# EAGLE library part PIC18F4550 (library microchip)
PIC18F4550 PIC18f4550 product page <http://www.microchip.com/wwwproducts/en/PIC18F4550> Datasheet <http://ww1.microchip.com/downloads/en/DeviceDoc/39632e.pdf> Ideal for low power (nanoWatt) and connectivity applications that benefit from the availability of three serial ports: FS-USB (12 Mbit/s), I²C™ and SPI™ (up to 10Mbit/s) and an asynchronous (LIN capable) serial port (EUSART). Large amounts of RAM memory for buffering and Enhanced FLASH program memory make it ideal for embedded control and monitoring applications that require periodic connection with a (legacy free) Personal Computer via USB for data upload/download and/or firmware updates. While operating up to 48 MHz, the PIC18F2550 is also mostly software and hardware compatible with the PIC16C745 Low-Speed USB OTP devices. THE PICSTART® Plus does NOT currently support this device but may support it in the future. USB Application Design Center <http://www.microchip.com/usb> Features: 1K byte Dual Port RAM + 1K byte GP RAM Full Speed Transceiver 16 Endpoints (IN/OUT) Internal Pull Up resistors (D+/D-) 48 MHz performance (12 MIPS) Pin-to-pin compatible with PIC16C7X5 Parameter Name Value Program Memory Type Flash Program Memory (KB) 32 CPU Speed (MIPS) 12 RAM Bytes 2,048 Data EEPROM (bytes) 256 Digital Communication Peripherals 1-UART, 1-A/E/USART, 1-SPI, 1-I2C1-MSSP(SPI/I2C) Capture/Compare/PWM Peripherals 1 CCP, 1 ECCP Timers 1 x 8-bit, 3 x 16-bit ADC 13 ch, 10-bit Comparators 2 USB (ch, speed, compliance) 1, FS Device, USB 2.0 Temperature Range (C) -40 to 85 Operating Voltage Range (V) 2 to 5.5 Pin Count 40
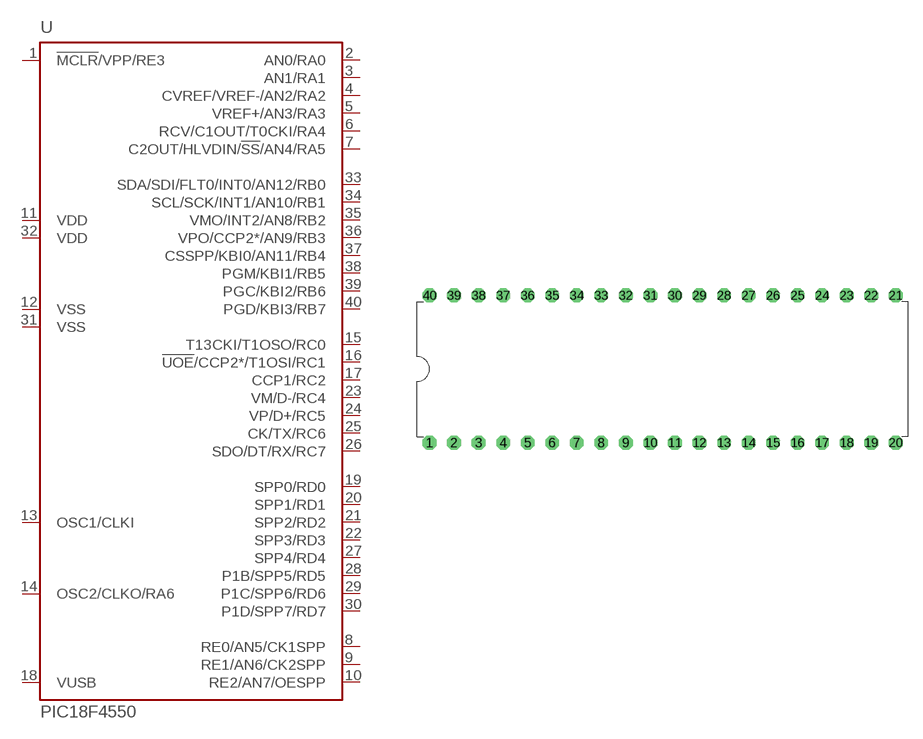
[diagram p2: symbol with the pads of DIL40; footprint DIL40]

Designator prefix U

## PIC18F4550-I/P  [DIL40]
1  !MCLR!/VPP/RE3  in
2  AN0/RA0
3  AN1/RA1
4  CVREF/VREF-/AN2/RA2
5  VREF+/AN3/RA3
6  RCV/C1OUT/T0CKI/RA4
7  C2OUT/HLVDIN/!SS!/AN4/RA5
8  RE0/AN5/CK1SPP
9  RE1/AN6/CK2SPP
10  RE2/AN7/OESPP
11  VDD  pwr
12  VSS  pwr
13  OSC1/CLKI  in
14  OSC2/CLKO/RA6  out
15  T13CKI/T1OSO/RC0
16  !UOE!/CCP2*/T1OSI/RC1
17  CCP1/RC2
18  VUSB
19  SPP0/RD0
20  SPP1/RD1
21  SPP2/RD2
22  SPP3/RD3
23  VM/D-/RC4
24  VP/D+/RC5
25  CK/TX/RC6
26  SDO/DT/RX/RC7
27  SPP4/RD4
28  P1B/SPP5/RD5
29  P1C/SPP6/RD6
30  P1D/SPP7/RD7
31  VSS  pwr
32  VDD  pwr
33  SDA/SDI/FLT0/INT0/AN12/RB0
34  SCL/SCK/INT1/AN10/RB1
35  VMO/INT2/AN8/RB2
36  VPO/CCP2*/AN9/RB3
37  CSSPP/KBI0/AN11/RB4
38  PGM/KBI1/RB5
39  PGC/KBI2/RB6
40  PGD/KBI3/RB7

## Footprint DIL40 (pad centres in mm)
DIP40
drill 0.813 pad 1.422 octagon: 1 -24.13,-7.62; 2 -21.59,-7.62; 3 -19.05,-7.62; 4 -16.51,-7.62; 5 -13.97,-7.62; 6 -11.43,-7.62; 7 -8.89,-7.62; 8 -6.35,-7.62; 9 -3.81,-7.62; 10 -1.27,-7.62; 11 1.27,-7.62; 12 3.81,-7.62; 13 6.35,-7.62; 14 8.89,-7.62; 15 11.43,-7.62; 16 13.97,-7.62; 17 16.51,-7.62; 18 19.05,-7.62; 19 21.59,-7.62; 20 24.13,-7.62; 21 24.13,7.62; 22 21.59,7.62; 23 19.05,7.62; 24 16.51,7.62; 25 13.97,7.62; 26 11.43,7.62; 27 8.89,7.62; 28 6.35,7.62; 29 3.81,7.62; 30 1.27,7.62; 31 -1.27,7.62; 32 -3.81,7.62; 33 -6.35,7.62; 34 -8.89,7.62; 35 -11.43,7.62; 36 -13.97,7.62; 37 -16.51,7.62; 38 -19.05,7.62; 39 -21.59,7.62; 40 -24.13,7.62